# EAGLE library part W65C51N (library 6502)
W65C51N by WDC
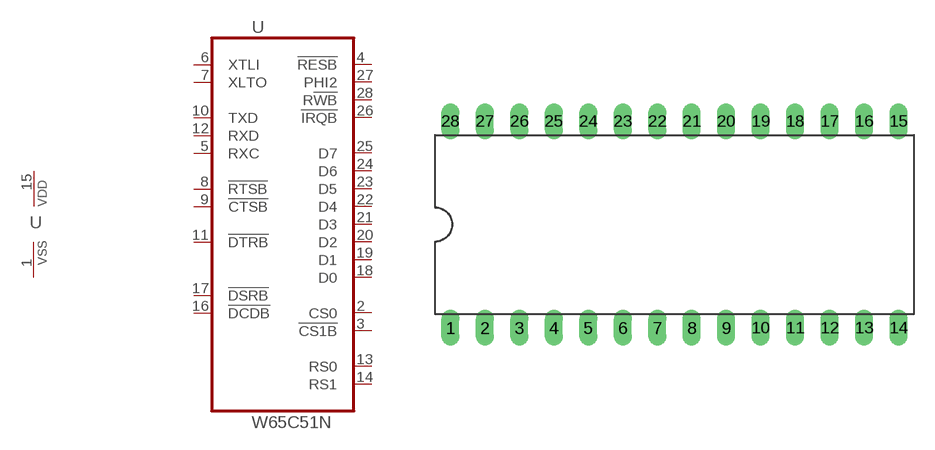
[diagram p2: symbol with the pads of DIL28-6; footprint DIL28-6]

Designator prefix -; gates G$1=W65C51N G$2=PWRN

## W65C51NP  [DIL28-6]
1  G$2:VSS  pwr
2  G$1:CS0  nc
3  G$1:!CS1B  in
4  G$1:!RESB  in
5  G$1:RXC
6  G$1:XTLI  in
7  G$1:XLTO  in
8  G$1:!RTSB  out
9  G$1:!CTSB  in
10  G$1:TXD  out
11  G$1:!DTRB  out
12  G$1:RXD  in
13  G$1:RS0  in
14  G$1:RS1  in
15  G$2:VDD  pwr
16  G$1:!DCDB  in
17  G$1:!DSRB  in
18  G$1:D0
19  G$1:D1
20  G$1:D2
21  G$1:D3
22  G$1:D4
23  G$1:D5
24  G$1:D6
25  G$1:D7
26  G$1:!IRQB  out
27  G$1:PHI2  in
28  G$1:R!WB  in

## Footprint DIL28-6 (pad centres in mm)
drill 0.813 long: 1 -16.51,-7.62; 2 -13.97,-7.62; 3 -11.43,-7.62; 4 -8.89,-7.62; 5 -6.35,-7.62; 6 -3.81,-7.62; 7 -1.27,-7.62; 8 1.27,-7.62; 9 3.81,-7.62; 10 6.35,-7.62; 11 8.89,-7.62; 12 11.43,-7.62; 13 13.97,-7.62; 14 16.51,-7.62; 15 16.51,7.62; 16 13.97,7.62; 17 11.43,7.62; 18 8.89,7.62; 19 6.35,7.62; 20 3.81,7.62; 21 1.27,7.62; 22 -1.27,7.62; 23 -3.81,7.62; 24 -6.35,7.62; 25 -8.89,7.62; 26 -11.43,7.62; 27 -13.97,7.62; 28 -16.51,7.62